# Altium footprint library Daxxn_Passives.PcbLib: 23 footprints (part 2 of 2)
Each footprint in its own frame and in the unit in brackets; x right, y up, seen from the top. Pads: shape width x height; smd on the part's side, far side on the other; paste and mask are expansions set on the pad; w line width, h text height; cw(c..) or ccw(c..) is an arc to the next point about the centre after c.
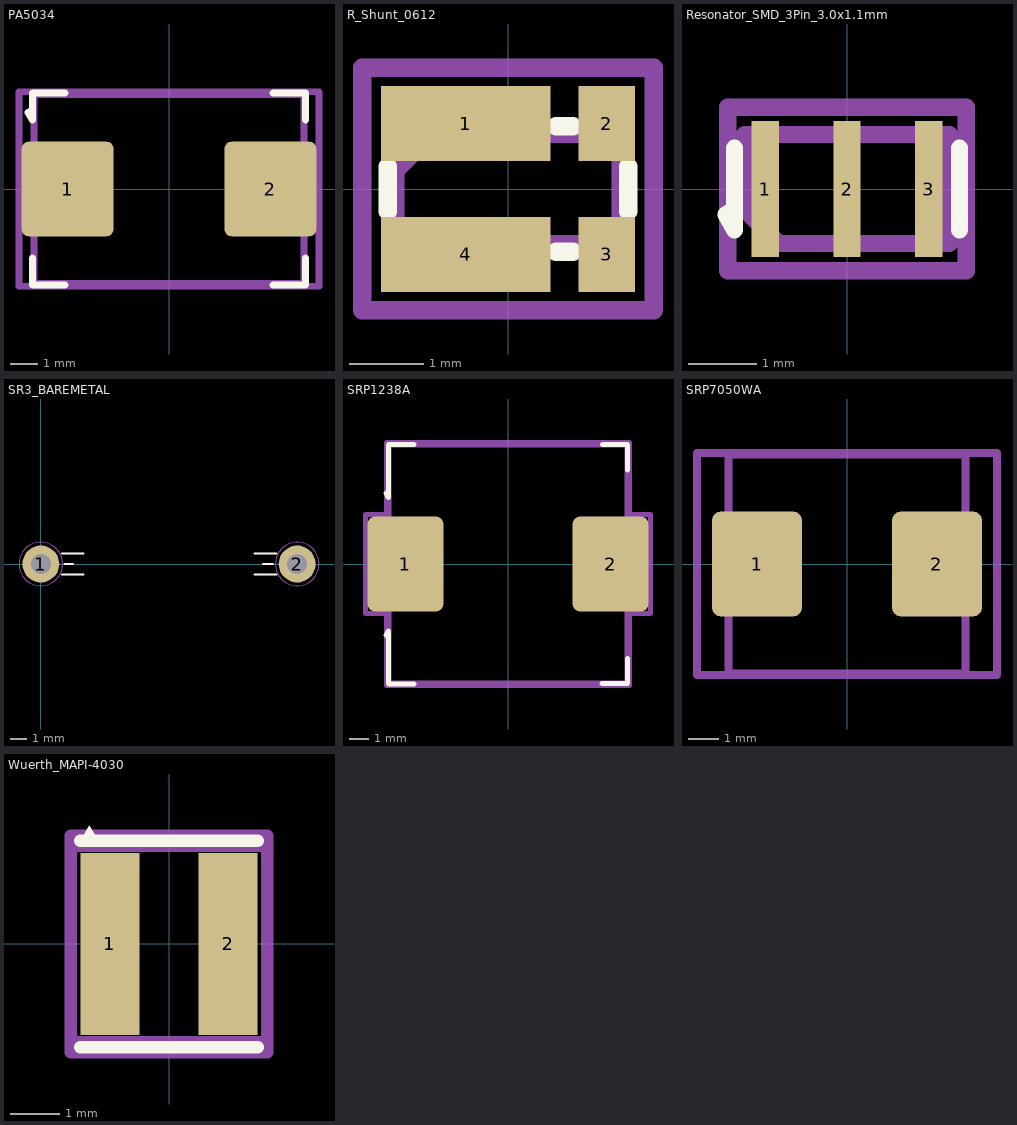
[diagram p1: the footprints below, top view; thin cyan lines are the x and y axes]

## PA5034 [mm]
pads (2):
  rrect15% 3.4x3.5 smd: 1(-3.75,0) 2(3.75,0)
F.SilkS:
  lines w0.254: -5.05,-2.55 -5.05,-3.55 -3.85,-3.55 ; -5.05,2.925 -5.225,2.825 -5.05,2.55 -5.05,3.55 -3.85,3.55 ; 3.85,-3.55 5.05,-3.55 5.05,-2.55 ; 3.85,3.55 5.05,3.55 5.05,2.55
F.CrtYd:
  lines w0.254: -5.55,-3.6 -5.55,3.6 5.55,3.6 5.55,-3.6 -5.55,-3.6
F.Fab:
  lines w0.254: -5,-3.5 -5,3.5 5,3.5 5,-3.5 -5,-3.5
  text "'.Designator'" at -4.047,6.56 h1

## R_Shunt_0612 [mm]
pads (4):
  rect 2.287x1.01 smd: 1(-0.572,0.885) 4(-0.572,-0.885)
  rect 0.762x1.01 smd: 2(1.334,0.885) 3(1.334,-0.885)
F.SilkS:
  lines w0.254: -1.625,-0.3 -1.625,0.3 ; 0.65,-0.85 0.875,-0.85 ; 0.65,0.85 0.875,0.85 ; 1.625,-0.3 1.625,0.3
F.CrtYd:
  lines w0.254: -1.97,-1.64 -1.97,1.64 1.97,1.64 1.97,-1.64 -1.97,-1.64
F.Fab:
  lines w0.254: -1.525,-0.75 -1.525,0.25 -1.025,0.75 1.525,0.75 1.525,-0.75 -1.525,-0.75
  text "'.Designator'" at -1.037,0.015 h0.25

## Resonator_SMD_3Pin_3.0x1.1mm [mm]
pads (3):
  rect 0.4x2 smd: 1(-1.2,0) 2(0,0) 3(1.2,0)
F.SilkS:
  lines w0.254: -1.65,-0.3 -1.775,-0.375 -1.65,-0.6 -1.65,0.6 ; 1.65,-0.6 1.65,0.6
F.CrtYd:
  lines w0.254: -1.75,-1.2 -1.75,1.2 1.75,1.2 1.75,-1.2 -1.75,-1.2
F.Fab:
  lines w0.254: -1.5,-0.3 -1.5,0.8 1.5,0.8 1.5,-0.8 -1,-0.8 -1.5,-0.3
  text "'.Designator'" at -1.037,0.165 h0.25

## SR3_BAREMETAL [mm]
pads (2):
  round 2.2 hole 1.2: 1(0,0) 2(15.24,0)
F.SilkS:
  lines w0.12: 1.27,-0.635 2.54,-0.635 ; 1.27,0.635 2.54,0.635 ; 1.4,0 1.905,0 ; 12.7,-0.635 14,-0.635 ; 12.7,0.635 14,0.635 ; 13.2,0 13.8,0
F.CrtYd:
  circle w0.05: c15.24,0 r1.3
  circle w0.05: c0,0 r1.3
F.Fab:
  text "'.Designator'" at 3.573,2.335 h1

## SRP1238A [mm]
pads (2):
  rrect20% 4x5 smd: 1(-5.4,0) 2(5.4,0)
F.SilkS:
  lines w0.254: -6.3,-3.825 -6.425,-3.75 -6.3,-3.525 -6.3,-6.325 -4.95,-6.325 ; -6.3,3.8 -6.425,3.725 -6.3,3.5 -6.3,6.3 -4.95,6.3 ; 4.95,-6.3 6.3,-6.3 6.3,-4.975 ; 4.975,6.3 6.3,6.3 6.3,4.95
F.CrtYd:
  lines w0.254: -7.5,-2.6 -7.5,2.6 -6.4,2.6 -6.4,6.4 6.4,6.4 6.4,2.6 7.5,2.6 7.5,-2.6 6.4,-2.6 6.4,-6.4 -6.4,-6.4 -6.4,-2.6 -7.5,-2.6
F.Fab:
  lines w0.254: -6.25,-6.25 -6.25,6.25 6.25,6.25 6.25,-6.25 -6.25,-6.25
  text "'.Designator'" at -1.037,-0.035 h0.25

## SRP7050WA [mm]
pads (2):
  rrect20% 3x3.5 smd: 1(-3,0) 2(3,0)
F.CrtYd:
  lines w0.254: -5,-3.7 -5,3.7 5,3.7 5,-3.7 -5,-3.7
F.Fab:
  lines w0.254: -3.95,-3.65 -3.95,3.65 3.95,3.65 3.95,-3.65 -3.95,-3.65
  text "'.Designator'" at -1.037,0.015 h0.25

## Wuerth_MAPI-4030 [mm]
pads (2):
  rect 1.2x3.7 smd: 1(-1.2,0) 2(1.2,0)
F.SilkS:
  region: -1.425,2.1 -1.8,2.1 -1.625,2.4
  lines w0.254: -1.8,-2.1 1.8,-2.1 ; -1.8,2.1 1.8,2.1
F.CrtYd:
  lines w0.254: -2,-2.2 -2,2.2 2,2.2 2,-2.2 -2,-2.2
F.Fab:
  lines w0.254: -2,-2 -2,2 2,2 2,-2 -2,-2
  text "'.Designator'" at -0.015,-1.037 h0.25